# Altium footprint library USPCBLib.PcbLib: 8 footprints
Each footprint in its own frame and in the unit in brackets; x right, y up, seen from the top. Pads: shape width x height; smd on the part's side, far side on the other; paste and mask are expansions set on the pad; w line width, h text height; cw(c..) or ccw(c..) is an arc to the next point about the centre after c.
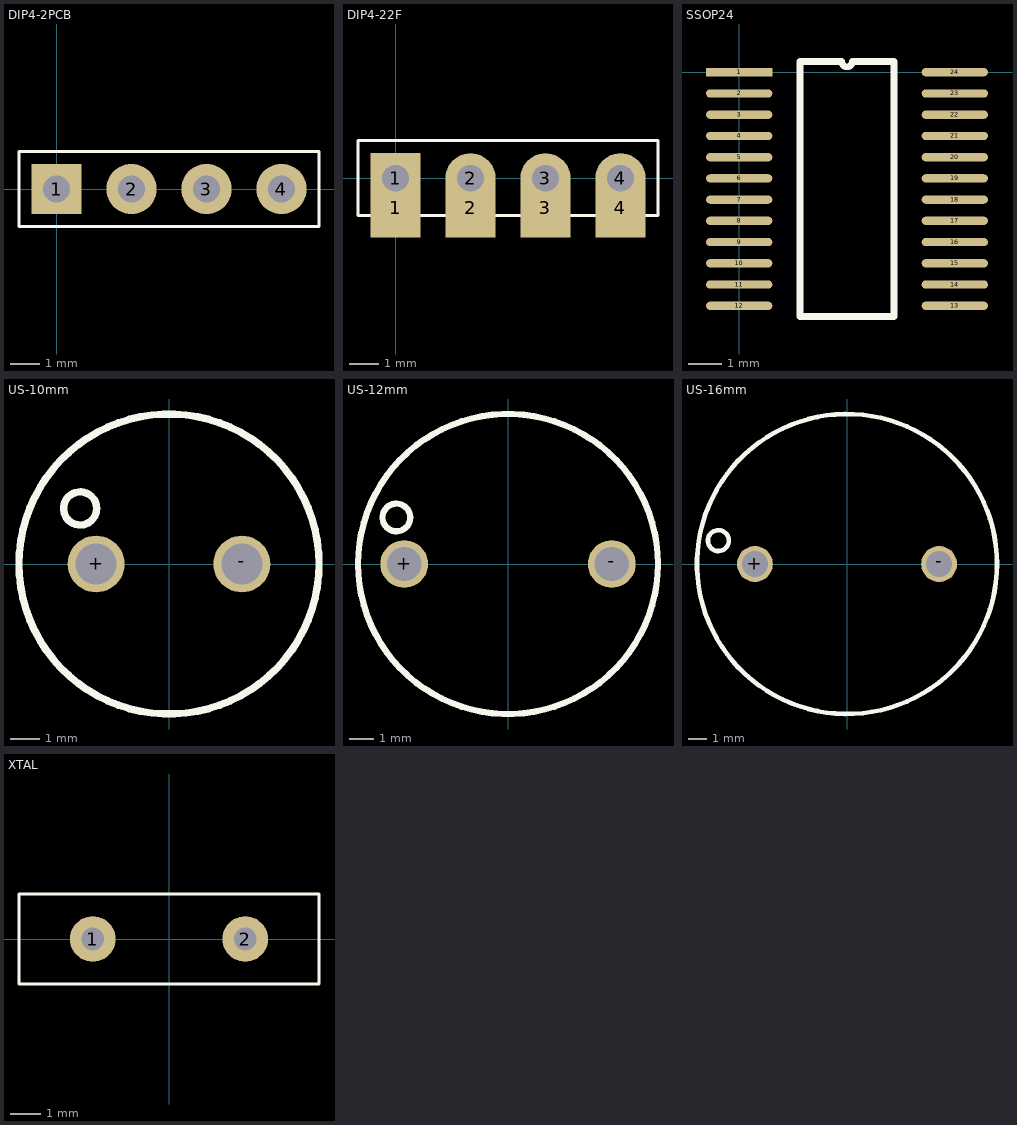
[diagram p0: the footprints below, top view; thin cyan lines are the x and y axes]

## DIP4-2PCB [mm]
pads (4):
  rect 1.7x1.7 hole 0.9: 1(0,0)
  round 1.7 hole 0.9: 2(2.54,0) 3(5.08,0) 4(7.62,0)
Top Overlay:
  lines w0.1: -1.27,-1.27 8.89,-1.27 8.89,1.27 -1.27,1.27 -1.27,-1.27

## DIP4-22F [mm]
pads (8):
  rect 1.7x2 smd: 1(0,-1) 2(2.54,-1) 3(5.08,-1) 4(7.62,-1)
  rect 1.7x1.7 hole 0.9: 1(0,0)
  round 1.7 hole 0.9: 2(2.54,0) 3(5.08,0) 4(7.62,0)
Top Overlay:
  lines w0.1: -1.27,-1.27 -1.27,1.27 8.89,1.27 8.89,-1.27 -1.27,-1.27

## PCBComponent_1 [mm]

## SSOP24 [mm]
pads (24):
  rect 2x0.25 smd: 1(0,0)
  oval 2x0.25 smd: 2(0,-0.64) 3(0,-1.28) 4(0,-1.92) 5(0,-2.56) 6(0,-3.2) 7(0,-3.84) 8(0,-4.48) 9(0,-5.12) 10(0,-5.76) 11(0,-6.4) 12(0,-7.04) 13(6.5,-7.04) 14(6.5,-6.4) 15(6.5,-5.76) 16(6.5,-5.12) 17(6.5,-4.48) 18(6.5,-3.84) 19(6.5,-3.2) 20(6.5,-2.56) 21(6.5,-1.92) 22(6.5,-1.28) 23(6.5,-0.64) 24(6.5,0)
Top Overlay:
  lines w0.2: 1.835,-7.36 4.665,-7.36 4.665,0.32 3.41,0.32 cw(c3.25,0.32) 3.09,0.32 1.835,0.32 1.835,-7.36

## US-10mm [mm]
pads (2):
  round 1.95 hole 1.4: +(-2.5,0) -(2.5,0)
Top Overlay:
  circle w0.254: c-3.048,1.905 r0.568
  circle w0.254: c0,0 r5.144

## US-12mm [mm]
pads (2):
  round 1.95 hole 1.4: +(-4.25,0) -(4.25,0)
Top Overlay:
  circle w0.254: c0,0 r6.144
  circle w0.254: c-4.572,1.905 r0.568

## US-16mm [mm]
pads (2):
  round 1.95 hole 1.4: +(-5,0) -(5,0)
Top Overlay:
  circle w0.254: c0,0 r8.144
  circle w0.254: c-6.985,1.27 r0.568

## XTAL [mil]
pads (2):
  round 60 hole 30: 1(-100,0) 2(100,0)
Top Overlay:
  lines w3.94: -196.85,-59.06 196.85,-59.06 196.85,59.06 -196.85,59.06 -196.85,-59.06